# EAGLE library part ADC128S (library mes_adc)
ADC128S102 The ADC128S102 is a low-power, eight-channel CMOS 12- bit analog-to-digital converter specified for conversion throughput rates of 500 ksps to 1 MSPS, featuring output serial data that is straight binary and is compatible with several standards, such as SPI?, QSPI?, MICROWIRE?, and many common DSP serial interfaces.
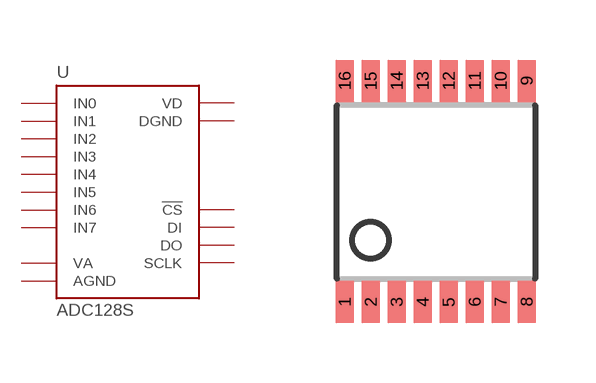
[diagram p2: symbol with the pads of TSSOP16; footprint TSSOP16]

Designator prefix -

## ADC128S102CIMT  [TSSOP16]
1  !CS  in
2  VA  sup
3  AGND  sup
4  IN0  in
5  IN1  in
6  IN2  in
7  IN3  in
8  IN4  in
9  IN5  in
10  IN6  in
11  IN7  in
12  DGND  sup
13  VD  sup
14  DI  in
15  DO  out
16  SCLK  in

## Footprint TSSOP16 (pad centres in mm)
16-Lead Plastic TSSOP (4.4mm) http://cds.linear.com/docs/Datasheet/1963fc.pdf
smd 0.45 x 1.05: 1 -2.275,-2.768; 2 -1.625,-2.768; 3 -0.975,-2.768; 4 -0.325,-2.768; 5 0.325,-2.768; 6 0.975,-2.768; 7 1.625,-2.768; 8 2.275,-2.768; 9 2.275,2.768; 10 1.625,2.768; 11 0.975,2.768; 12 0.325,2.768; 13 -0.325,2.768; 14 -0.975,2.768; 15 -1.625,2.768; 16 -2.275,2.768